# Altium schematic symbol library C_Murata.SchLib: 45 symbols
Pins are listed as number, name and electrical type; pins without a type are passive.

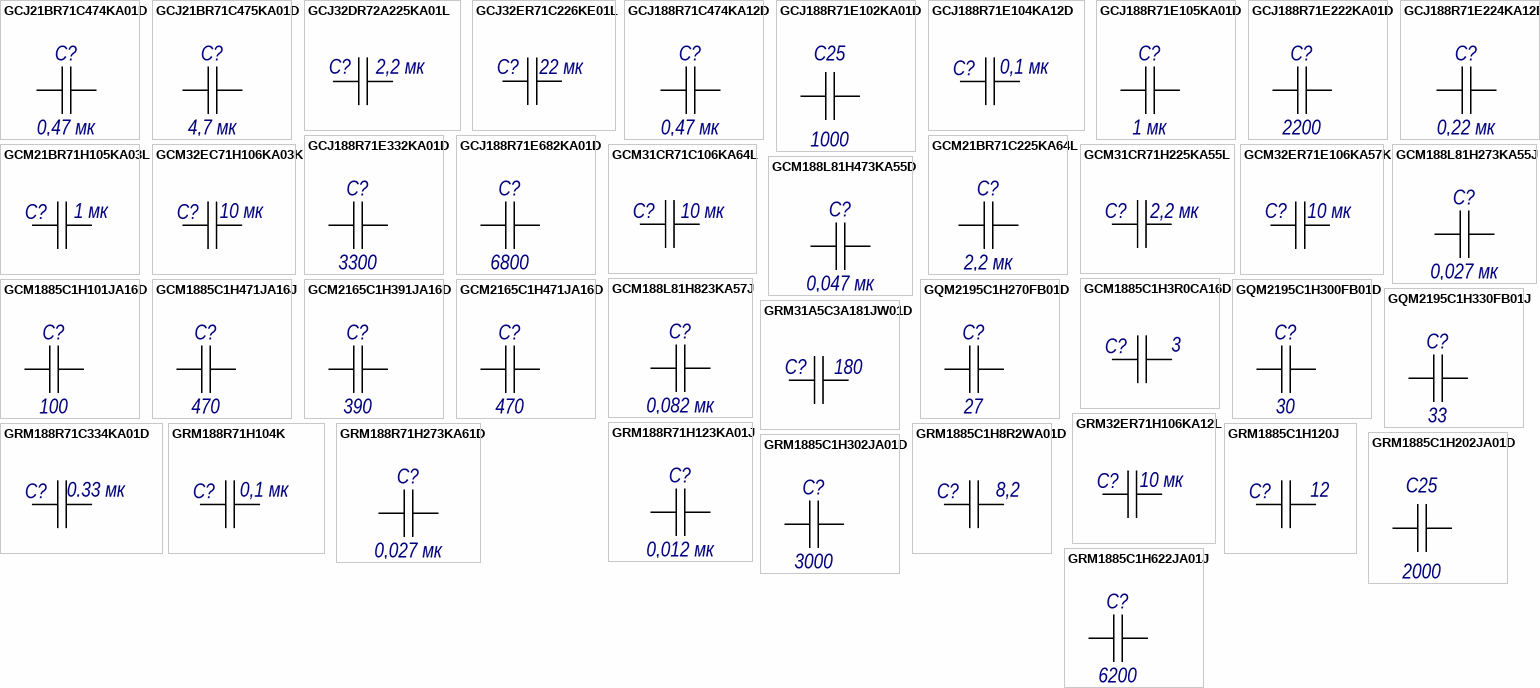
[diagram p0: symbols GCJ21BR71C474KA01D to GRM1885C1H622JA01J]

## GCJ21BR71C474KA01D
designator C?, comment value 0,47 мк  (hidden comment: Конденсатор GCJ21BR71C474KA01D фирма "Murata")
чип 0805-X7R-16 В-0,47 мк ±10% Murata; NomU: 16 В; TKE: X7R; Manufacturer: Murata; PartNumber: GCJ21BR71C474KA01D; TCh: 10%; GOST: Конденсатор GCJ21BR71C474KA01D фирма "Murata"
footprint C0805_H135M (Dim 2mm*1.25mm H=1.35mm)
pins: 1, 2
1 alternate drawing of the same symbol

## GCJ21BR71C475KA01D
designator C?, comment value 4,7 мк  (hidden comment: Конденсатор GCJ21BR71C475KA01D фирма "Murata")
чип 0805-X7R-16 В-4,7 мк ±10% Murata; NomU: 16 В; TKE: X7R; Manufacturer: Murata; PartNumber: GCJ21BR71C475KA01D; TCh: 10%; GOST: Конденсатор GCJ21BR71C475KA01D фирма "Murata"
footprint C0805_H135M (Dim 2mm*1.25mm H=1.35mm)
pins: 1, 2
1 alternate drawing of the same symbol

## GCJ32DR72A225KA01L
designator C?, comment value 2,2 мк  (hidden comment: Конденсатор GCJ32DR72A225KA01L фирма "Murata")
чип 1210-X7R-100 В-2.2 мк ±10% Murata; NomU: 100В; TKE: X7R; Manufacturer: Murata; PartNumber: GCJ32DR72A225KA01L; TCh: 10%; GOST: Конденсатор GCJ32DR72A225KA01L фирма "Murata"
footprint C1210_H230M (Dim 3.2mm*2.5mm H=2.3mm)
pins: 1, 2
1 alternate drawing of the same symbol

## GCJ32ER71C226KE01L
designator C?, comment value 22 мк  (hidden comment: Конденсатор GCJ32ER71C226KE01L фирма "Murata")
чип 1210-X7R-16 В-22 мк ±10% Murata; NomU: 16 В; TKE: X7R; Manufacturer: Murata; PartNumber: GCJ32ER71C226KE01L; TCh: 10%; GOST: Конденсатор GCJ32ER71C226KE01L фирма "Murata"
footprint C1210_H250M (Dim 3.2mm*2.5mm H=2.5mm)
pins: 1, 2
1 alternate drawing of the same symbol

## GCJ188R71C474KA12D
designator C?, comment value 0,47 мк  (hidden comment: Конденсатор GCJ188R71C474KA12D фирма "Murata")
чип 0603-X7R-16 В-0,47 мк ±10% Murata; NomU: 16 В; TKE: X7R; Manufacturer: Murata; PartNumber: GCJ188R71C474KA12D; TCh: 10%; GOST: Конденсатор GCJ188R71C474KA12D фирма "Murata"
footprint C0603_H090M (Dim 1.6mm*0.8mm H=0.9mm)
footprint C0603_H090M (Dim 1.6mm*0.8mm H=0.9mm)
pins: 1, 2
1 alternate drawing of the same symbol

## GCJ188R71E102KA01D
designator C25, comment value 1000  (hidden comment: Конденсатор GCJ188R71E102KA01D фирма "Murata")
чип 0603-X7R-25 В-1000 п ±10% Murata; NomU: 25 В; TKE: X7R; Manufacturer: Murata; PartNumber: GCJ188R71E102KA01D; TCh: 10%; GOST: Конденсатор GCJ188R71E102KA01D фирма "Murata"
footprint C0603_H090M (Dim 1.6mm*0.8mm H=0.9mm)
footprint C0603_H090M (Dim 1.6mm*0.8mm H=0.9mm)
pins: 1, 2
1 alternate drawing of the same symbol

## GCJ188R71E104KA12D
designator C?, comment value 0,1 мк  (hidden comment: Конденсатор GCJ188R71E104KA12D фирма "Murata")
чип 0603-X7R-25 В-0.1 мк ±10%  Murata; NomU: 25 В; TKE: X7R; Manufacturer: Murata; PartNumber: GCJ188R71E104KA12D; TCh: 10%; GOST: Конденсатор GCJ188R71E104KA12D фирма "Murata"
footprint C0603_H090M (Dim 1.6mm*0.8mm H=0.9mm)
footprint C0603_H090M (Dim 1.6mm*0.8mm H=0.9mm)
pins: 1, 2
1 alternate drawing of the same symbol

## GCJ188R71E105KA01D
designator C?, comment value 1 мк  (hidden comment: Конденсатор GCJ188R71E105KA01D фирма "Murata")
чип 0603-X7R-25 В-1 мк ±10%  Murata; NomU: 25 В; TKE: X7R; Manufacturer: Murata; PartNumber: GCJ188R71E105KA01D; TCh: 10%; GOST: Конденсатор GCJ188R71E105KA01D фирма "Murata"
footprint C0603_H090M (Dim 1.6mm*0.8mm H=0.9mm)
footprint C0603_H090M (Dim 1.6mm*0.8mm H=0.9mm)
pins: 1, 2
1 alternate drawing of the same symbol

## GCJ188R71E222KA01D
designator C?, comment value 2200  (hidden comment: Конденсатор GCJ188R71E222KA01D фирма "Murata")
чип 0603-X7R-25 В-2200 п ±10%  Murata; NomU: 25 В; TKE: X7R; Manufacturer: Murata; PartNumber: GCJ188R71E222KA01D; TCh: 10%; GOST: Конденсатор GCJ188R71E222KA01D фирма "Murata"
footprint C0603_H090M (Dim 1.6mm*0.8mm H=0.9mm)
footprint C0603_H090M (Dim 1.6mm*0.8mm H=0.9mm)
pins: 1, 2
1 alternate drawing of the same symbol

## GCJ188R71E224KA12D
designator C?, comment value 0,22 мк  (hidden comment: Конденсатор GCJ188R71E224KA12D фирма "Murata")
чип 0603-X7R-25 В-0,22 мк ±10%  Murata; NomU: 25 В; TKE: X7R; Manufacturer: Murata; PartNumber: GCJ188R71E224KA12D; TCh: 10%; GOST: Конденсатор GCJ188R71E224KA12D фирма "Murata"
footprint C0603_H090M (Dim 1.6mm*0.8mm H=0.9mm)
footprint C0603_H090M (Dim 1.6mm*0.8mm H=0.9mm)
pins: 1, 2
1 alternate drawing of the same symbol

## GCJ188R71E332KA01D
designator C?, comment value 3300  (hidden comment: Конденсатор GCJ188R71E332KA01D фирма "Murata")
чип 0603-X7R-25 В-3300 п ±10%  Murata; NomU: 25 В; TKE: X7R; Manufacturer: Murata; PartNumber: GCJ188R71E332KA01D; TCh: 10%; GOST: Конденсатор GCJ188R71E332KA01D фирма "Murata"
footprint C0603_H090M (Dim 1.6mm*0.8mm H=0.9mm)
footprint C0603_H090M (Dim 1.6mm*0.8mm H=0.9mm)
pins: 1, 2
1 alternate drawing of the same symbol

## GCJ188R71E682KA01D
designator C?, comment value 6800  (hidden comment: Конденсатор GCJ188R71E682KA01D фирма "Murata")
чип 0603-X7R-25 В-6800 п ±10%  Murata; NomU: 25 В; TKE: X7R; Manufacturer: Murata; PartNumber: GCJ188R71E682KA01D; TCh: 10%; GOST: Конденсатор GCJ188R71E682KA01D фирма "Murata"
footprint C0603_H090M (Dim 1.6mm*0.8mm H=0.9mm)
footprint C0603_H090M (Dim 1.6mm*0.8mm H=0.9mm)
pins: 1, 2
1 alternate drawing of the same symbol

## GCM21BR71C225KA64L
designator C?, comment value 2,2 мк  (hidden comment: Конденсатор GCM21BR71C225KA64L фирма "Murata")
чип 0805-X7R-16 В-2,2 мк ±10%  Murata; NomU: 16 В; TKE: X7R; Manufacturer: Murata; PartNumber: GCM21BR71C225KA64L; TCh: 10%; GOST: Конденсатор GCM21BR71C225KA64L фирма "Murata"
footprint C0805_H135M (Dim 2mm*1.25mm H=1.35mm)
pins: 1, 2
1 alternate drawing of the same symbol

## GCM21BR71H105KA03L
designator C?, comment value 1 мк  (hidden comment: Конденсатор GCM21BR71H105KA03L фирма "Murata")
чип 0805-X7R-50 В-1 мк ±10%  Murata; NomU: 50 В; TKE: X7R; Manufacturer: Murata; PartNumber: GCM21BR71H105KA03L; TCh: 10%; GOST: Конденсатор GCM21BR71H105KA03L фирма "Murata"
footprint C0805_H135M (Dim 2mm*1.25mm H=1.35mm)
pins: 1, 2
1 alternate drawing of the same symbol

## GCM31CR71C106KA64L
designator C?, comment value 10 мк  (hidden comment: Конденсатор GCM31CR71C106KA64L фирма "Murata")
чип 1206-X7R-16 В-10 мк ±10%  Murata; NomU: 16В; TKE: X7R; Manufacturer: Murata; PartNumber: GCM31CR71C106KA64L; TCh: 10%; GOST: Конденсатор GCM31CR71C106KA64L фирма "Murata"
footprint C1206_H180M (Dim 3.2mm*1.6mm H=1.6mm)
pins: 1, 2
1 alternate drawing of the same symbol

## GCM31CR71H225KA55L
designator C?, comment value 2,2 мк  (hidden comment: Конденсатор GCM31CR71H225KA55L фирма "Murata")
чип 1206-X7R-50 В- 2,2 мк ±10%  Murata; NomU: 50В; TKE: X7R; Manufacturer: Murata; PartNumber: GCM31CR71H225KA55L; TCh: 10%; GOST: Конденсатор GCM31CR71H225KA55L фирма "Murata"
footprint C1206_H180M (Dim 3.2mm*1.6mm H=1.6mm)
pins: 1, 2
1 alternate drawing of the same symbol

## GCM32EC71H106KA03K
designator C?, comment value 10 мк  (hidden comment: Конденсатор GCM32EC71H106KA03K фирма "Murata")
чип 1210-X7S-50 В-10 мк ±10%  Murata; NomU: 50 В; TKE: X7S; Manufacturer: Murata; PartNumber: GCM32EC71H106KA03K; TCh: 10%; GOST: Конденсатор GCM32EC71H106KA03K фирма "Murata"
footprint C1210_H250M (Dim 3.2mm*2.5mm H=2.5mm)
pins: 1, 2
1 alternate drawing of the same symbol

## GCM32ER71E106KA57K
designator C?, comment value 10 мк  (hidden comment: Конденсатор GCM32ER71E106KA57K фирма "Murata")
чип 1210-X7R-25 В-10 мк ±10%  Murata; NomU: 25 В; TKE: X7R; Manufacturer: Murata; PartNumber: GCM32ER71E106KA57K; TCh: 10%; GOST: Конденсатор GCM32ER71E106KA57K фирма "Murata"
footprint C1210_H250M (Dim 3.2mm*2.5mm H=2.5mm)
pins: 1, 2
1 alternate drawing of the same symbol

## GCM188L81H273KA55J
designator C?, comment value 0,027 мк  (hidden comment: Конденсатор GCM188L81H273KA55J фирма "Murata")
чип 0603-X8L-50 В-0,027 мк ±10%  Murata; NomU: 50 В; TKE: X8L; Manufacturer: Murata; PartNumber: GCM188L81H273KA55J; TCh: 10%; GOST: Конденсатор GCM188L81H273KA55J фирма "Murata"
footprint C0603_H090M (Dim 1.6mm*0.8mm H=0.9mm)
footprint C0603_H090M (Dim 1.6mm*0.8mm H=0.9mm)
pins: 1, 2
1 alternate drawing of the same symbol

## GCM188L81H473KA55D
designator C?, comment value 0,047 мк  (hidden comment: Конденсатор GCM188L81H473KA55D фирма "Murata")
чип 0603-X8L-50 В-0,047 мк ±10%  Murata; NomU: 50 В; TKE: X8L; Manufacturer: Murata; PartNumber: GCM188L81H473KA55D; TCh: 10%; GOST: Конденсатор GCM188L81H473KA55D фирма "Murata"
footprint C0603_H090M (Dim 1.6mm*0.8mm H=0.9mm)
footprint C0603_H090M (Dim 1.6mm*0.8mm H=0.9mm)
pins: 1, 2
1 alternate drawing of the same symbol

## GCM188L81H823KA57J
designator C?, comment value 0,082 мк  (hidden comment: Конденсатор GCM188L81H823KA57J фирма "Murata")
чип 0603-X8L-50 В-0,082 мк ±10%  Murata; NomU: 50 В; TKE: X8L; Manufacturer: Murata; PartNumber: GCM188L81H823KA57J; TCh: 10%; GOST: Конденсатор GCM188L81H823KA57J фирма "Murata"
footprint C0603_H090M (Dim 1.6mm*0.8mm H=0.9mm)
footprint C0603_H090M (Dim 1.6mm*0.8mm H=0.9mm)
pins: 1, 2
1 alternate drawing of the same symbol

## GCM1885C1H3R0CA16D
designator C?, comment value 3  (hidden comment: Конденсатор GCM1885C1H3R0CA16D фирма "Murata")
чип 0603-NP0-50 В-3 п ±0,25 п  Murata; TCh: ±0,25 п; NomU: 50 В; TKE: NP0; Высота корпуса: 0.8мм; T: -55 C ... +125 C; Manufacturer: Murata; PartNumber: GCM1885C1H3R0CA16D; GOST: Конденсатор GCM1885C1H3R0CA16D фирма "Murata"
footprint C0603_H090M (Dim 1.6mm*0.8mm H=0.9mm)
footprint C0603_H090M (Dim 1.6mm*0.8mm H=0.9mm)
pins: 1, 2
1 alternate drawing of the same symbol

## GCM1885C1H101JA16D
designator C?, comment value 100  (hidden comment: Конденсатор GCM1885C1H101JA16D фирма "Murata")
чип 0603-C0G-50 В-100 п ±5%  Murata; NomU: 50 В; TKE: C0G; Manufacturer: Murata; PartNumber: GCM1885C1H101JA16D; TCh: 5%; GOST: Конденсатор GCM1885C1H101JA16D фирма "Murata"
footprint C0603_H090M (Dim 1.6mm*0.8mm H=0.9mm)
footprint C0603_H090M (Dim 1.6mm*0.8mm H=0.9mm)
pins: 1, 2
1 alternate drawing of the same symbol

## GCM1885C1H471JA16J
designator C?, comment value 470  (hidden comment: Конденсатор GCM1885C1H471JA16J фирма "Murata")
чип 0603-C0G-50 В-470 п ±5%  Murata; NomU: 50 В; TKE: C0G; Manufacturer: Murata; PartNumber: GCM1885C1H471JA16J; TCh: 5%; GOST: Конденсатор GCM1885C1H471JA16J фирма "Murata"
footprint C0603_H090M (Dim 1.6mm*0.8mm H=0.9mm)
pins: 1, 2
1 alternate drawing of the same symbol

## GCM2165C1H391JA16D
designator C?, comment value 390  (hidden comment: Конденсатор GCM2165C1H391JA16D фирма "Murata")
чип 0805-NP0-50 В-390 п ±5%  Murata; NomU: 50 В; TKE: NP0; T: -55 ... +125 C; Manufacturer: Murata; PartNumber: GCM2165C1H391JA16D; TCh: 5%; GOST: Конденсатор GCM2165C1H391JA16D фирма "Murata"
footprint C0805_H090M (Dim 2mm*1.25mm H=0.9mm)
pins: 1, 2
1 alternate drawing of the same symbol

## GCM2165C1H471JA16D
designator C?, comment value 470  (hidden comment: Конденсатор GCM2165C1H471JA16D фирма "Murata")
чип 0805-NP0-50 В-470 п ±5%  Murata; NomU: 50 В; TKE: NP0; T: -55 ... +125 C; Manufacturer: Murata; PartNumber: GCM2165C1H471JA16D; TCh: 5%; GOST: Конденсатор GCM2165C1H471JA16D фирма "Murata"
footprint C0805_H135M (Dim 2mm*1.25mm H=1.35mm)
pins: 1, 2
1 alternate drawing of the same symbol

## GQM2195C1H270FB01D
designator C?, comment value 27  (hidden comment: Конденсатор GQM2195C1H270FB01D фирма "Murata")
чип 0805-NP0-50 В-27 п ±1%  Murata; NomU: 50 В; TKE: NP0; T: -55 ... +125 C; Manufacturer: Murata; PartNumber: GQM2195C1H270FB01D; TCh: 1%; GOST: Конденсатор GQM2195C1H270FB01D фирма "Murata"
footprint C0805_H135M (Dim 2mm*1.25mm H=1.35mm)
pins: 1, 2
1 alternate drawing of the same symbol

## GQM2195C1H300FB01D
designator C?, comment value 30  (hidden comment: Конденсатор GQM2195C1H300FB01D фирма "Murata")
чип 0805-NP0-50 В-30 п ±1%  Murata; NomU: 50 В; TKE: NP0; T: -55 ... +125 C; Manufacturer: Murata; PartNumber: GQM2195C1H300FB01D; TCh: 1%; GOST: Конденсатор GQM2195C1H300FB01D фирма "Murata"
footprint C0805_H090M (Dim 2mm*1.25mm H=0.9mm)
pins: 1, 2
1 alternate drawing of the same symbol

## GQM2195C1H330FB01J
designator C?, comment value 33  (hidden comment: Конденсатор GQM2195C1H330FB01J фирма "Murata")
чип 0805-NP0-50 В-33 п ±1%  Murata; NomU: 50 В; TKE: NP0; T: -55 ... +125 C; Manufacturer: Murata; PartNumber: GQM2195C1H330FB01J; TCh: 1%; GOST: Конденсатор GQM2195C1H330FB01J фирма "Murata"
footprint C0805_H090M (Dim 2mm*1.25mm H=0.9mm)
pins: 1, 2
1 alternate drawing of the same symbol

## GRM31A5C3A181JW01D
designator C?, comment value 180  (hidden comment: 180 1000 В NP0 5%-P\N-GRM31A5C3A181JW01D)
чип 1206-NP0-1000 В-180 п ±5%  Murata; NomU: 1000 В; GOST: Конденсатор GRM31A5C3A181JW01D фирма "Murata"; Manufacturer: Murata; PartNumber: GRM31A5C3A181JW01D; TCh: 5%; TKE: NP0
footprint C1206_H130M (Dim 3.2mm*1.6mm H=1.15mm)
pins: 1, 2
1 alternate drawing of the same symbol

## GRM32ER71H106KA12L
designator C?, comment value 10 мк  (hidden comment: Конденсатор GRM32ER71H106KA12L фирма "Murata")
чип 1210-X7R-50 В-10 мк ±10%  Murata; NomU: 50 В; TKE: X7R; Manufacturer: Murata; PartNumber: GRM32ER71H106KA12L; TCh: 10%; GOST: Конденсатор GRM32ER71H106KA12L фирма "Murata"
footprint C1210_H250M (Dim 3.2mm*2.5mm H=2.5mm)
pins: 1, 2
1 alternate drawing of the same symbol

## GRM188R71C334KA01D
designator C?, comment value 0.33 мк  (hidden comment: Конденсатор GRM188R71C334KA01D фирма "Murata")
чип 0603-X7R-16 В-0.33 мк ±10 %  Murata; TCh: ±10 %; NomU: 16 В; TKE: X7R; Manufacturer: Murata; PartNumber: GRM188R71C334KA01D; GOST: Конденсатор GRM188R71C334KA01D фирма "Murata"
footprint C0603_H090M (Dim 1.6mm*0.8mm H=0.9mm)
pins: 1, 2
1 alternate drawing of the same symbol

## GRM188R71H104K
designator C?, comment value 0,1 мк  (hidden comment: Конденсатор GRM188R71H104K фирма "Murata")
чип 0603-X7R-50 В-0.1 мк ±10% Murata снят с производства; NomU: 50 В; TKE: X7R; Manufacturer: Murata; PartNumber: GRM188R71H104K; TCh: 10%; GOST: Конденсатор GRM188R71H104K фирма "Murata"; Note: Снят с производства
footprint C0603_H090M (Dim 1.6mm*0.8mm H=0.9mm)
pins: 1, 2
1 alternate drawing of the same symbol

## GRM188R71H123KA01J
designator C?, comment value 0,012 мк  (hidden comment: Конденсатор GRM188R71H123KA01J фирма "Murata")
чип 0603-X7R-50 В-0,012 мк ±10%  Murata; NomU: 50 В; TKE: X7R; Manufacturer: Murata; PartNumber: GRM188R71H123KA01J; TCh: 10%; GOST: Конденсатор GRM188R71H123KA01J фирма "Murata"
footprint C0603_H090M (Dim 1.6mm*0.8mm H=0.9mm)
footprint C0603_H090M (Dim 1.6mm*0.8mm H=0.9mm)
pins: 1, 2
1 alternate drawing of the same symbol

## GRM188R71H273KA61D
designator C?, comment value 0,027 мк  (hidden comment: Конденсатор GRM188R71H273KA61D фирма "Murata")
чип 0603-X7R-50 В-0,027 мк ±10%  Murata; NomU: 50 В; TKE: X7R; Manufacturer: Murata; PartNumber: GRM188R71H273KA61D; TCh: 10%; GOST: Конденсатор GRM188R71H273KA61D фирма "Murata"
footprint C0603_H090M (Dim 1.6mm*0.8mm H=0.9mm)
footprint C0603_H090M (Dim 1.6mm*0.8mm H=0.9mm)
pins: 1, 2
1 alternate drawing of the same symbol

## GRM1885C1H8R2WA01D
designator C?, comment value 8,2  (hidden comment: Конденсатор GRM1885C1H8R2WA01D фирма "Murata")
чип 0603-NP0-50 В-8,2 п ±5 %  Murata; TCh: ±5 %; NomU: 50 В; TKE: NP0; Manufacturer: Murata; PartNumber: GRM1885C1H8R2WA01D; GOST: Конденсатор GRM1885C1H8R2WA01D фирма "Murata"
footprint C0603_H090M (Dim 1.6mm*0.8mm H=0.9mm)
footprint C0603_H090M (Dim 1.6mm*0.8mm H=0.9mm)
pins: 1, 2
1 alternate drawing of the same symbol

## GRM1885C1H120J
designator C?, comment value 12  (hidden comment: Конденсатор GRM1885C1H120J фирма "Murata")
чип 0603-NP0-50 В-12 п ±5 %  Murata; TCh: ±5 %; NomU: 50 В; TKE: NP0; Manufacturer: Murata; PartNumber: GRM1885C1H120J; GOST: Конденсатор GRM1885C1H120J фирма "Murata"
footprint C0603_H090M (Dim 1.6mm*0.8mm H=0.9mm)
footprint C0603_H090M (Dim 1.6mm*0.8mm H=0.9mm)
pins: 1, 2
1 alternate drawing of the same symbol

## GRM1885C1H202JA01D
designator C25, comment value 2000  (hidden comment: Конденсатор GRM1885C1H202JA01D фирма "Murata")
чип 0603-NP0-50 В-2000 п ±5% 125C Murata; NomU: 50 В; TKE: NP0; Manufacturer: Murata; PartNumber: GRM1885C1H202JA01D; TCh: 5%; GOST: Конденсатор GRM1885C1H202JA01D фирма "Murata"
footprint C0603_H090M (Dim 1.6mm*0.8mm H=0.9mm)
footprint C0603_H090M (Dim 1.6mm*0.8mm H=0.9mm)
pins: 1, 2
1 alternate drawing of the same symbol

## GRM1885C1H302JA01D
designator C?, comment value 3000  (hidden comment: Конденсатор GRM1885C1H302JA01D фирма "Murata")
чип 0805-NP0-50 В-3000 п ±5% 125C Murata; NomU: 50 В; TKE: NP0; T: -55 ... +125 C; Manufacturer: Murata; PartNumber: GRM1885C1H302JA01D; TCh: 5%; GOST: Конденсатор GRM1885C1H302JA01D фирма "Murata"
footprint C0805_H135M (Dim 2mm*1.25mm H=1.35mm)
pins: 1, 2
1 alternate drawing of the same symbol

## GRM1885C1H622JA01J
designator C?, comment value 6200  (hidden comment: Конденсатор GRM1885C1H622JA01J фирма "Murata")
чип 0603-NP0-50 В-6200 п ±5%  Murata; NomU: 50 В; TKE: NP0; Manufacturer: Murata; PartNumber: GRM1885C1H622JA01J; TCh: 5%; GOST: Конденсатор GRM1885C1H622JA01J фирма "Murata"
footprint C0603_H090M (Dim 1.6mm*0.8mm H=0.9mm)
footprint C0603_H090M (Dim 1.6mm*0.8mm H=0.9mm)
pins: 1, 2
1 alternate drawing of the same symbol

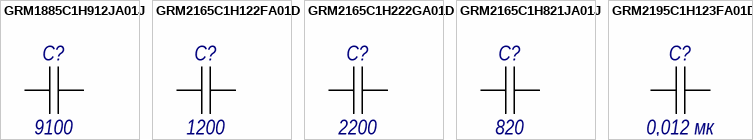
[diagram p1: symbols GRM1885C1H912JA01J to GRM2195C1H123FA01D]

## GRM1885C1H912JA01J
designator C?, comment value 9100  (hidden comment: Конденсатор GRM1885C1H912JA01J фирма "Murata")
чип 0603-NP0-50 В-9100 п ±5%  Murata; NomU: 50 В; TKE: NP0; Manufacturer: Murata; PartNumber: GRM1885C1H912JA01J; TCh: 5%; GOST: Конденсатор GRM1885C1H912JA01J фирма "Murata"
footprint C0603_H090M (Dim 1.6mm*0.8mm H=0.9mm)
footprint C0603_H090M (Dim 1.6mm*0.8mm H=0.9mm)
pins: 1, 2
1 alternate drawing of the same symbol

## GRM2165C1H122FA01D
designator C?, comment value 1200  (hidden comment: Конденсатор GRM2165C1H122FA01D фирма "Murata")
чип 0805-NP0-50 В-1200 п ±1%  Murata; NomU: 50 В; TKE: NP0; T: -55 ... +125 C; Manufacturer: Murata; PartNumber: GRM2165C1H122FA01D; TCh: 1%; GOST: Конденсатор GRM2165C1H122FA01D фирма "Murata"
footprint C0805_H090M (Dim 2mm*1.25mm H=0.9mm)
pins: 1, 2
1 alternate drawing of the same symbol

## GRM2165C1H222GA01D
designator C?, comment value 2200  (hidden comment: Конденсатор GRM2165C1H222GA01D фирма "Murata")
чип 0805-NP0-50 В-2200 п ±2%  Murata; NomU: 50 В; TKE: NP0; T: -55 ... +125 C; Manufacturer: Murata; PartNumber: GRM2165C1H222GA01D; TCh: 2%; GOST: Конденсатор GRM2165C1H222GA01D фирма "Murata"
footprint C0805_H135M (Dim 2mm*1.25mm H=1.35mm)
pins: 1, 2
1 alternate drawing of the same symbol

## GRM2165C1H821JA01J
designator C?, comment value 820  (hidden comment: Конденсатор GRM2165C1H821JA01J  фирма "Murata")
чип 0805-NP0-50 В-820 п ±5%  Murata; NomU: 50 В; TKE: NP0; T: -55 ... +125 C; Manufacturer: Murata; PartNumber: GRM2165C1H821JA01J; TCh: 5%; GOST: Конденсатор GRM2165C1H821JA01J  фирма "Murata"
footprint C0805_H090M (Dim 2mm*1.25mm H=0.9mm)
pins: 1, 2
1 alternate drawing of the same symbol

## GRM2195C1H123FA01D
designator C?, comment value 0,012 мк  (hidden comment: Конденсатор GRM2195C1H123FA01D фирма "Murata")
чип 0805-NP0-50 В-0,012 мк ±1%  Murata; NomU: 50 В; TKE: NP0; T: -55 ... +125 C; Manufacturer: Murata; PartNumber: GRM2195C1H123FA01D; TCh: 1%; GOST: Конденсатор GRM2195C1H123FA01D фирма "Murata"
footprint C0805_H090M (Dim 2mm*1.25mm H=0.9mm)
pins: 1, 2
1 alternate drawing of the same symbol